# EAGLE library part ATTINY3217-MN (library atTiny3217)
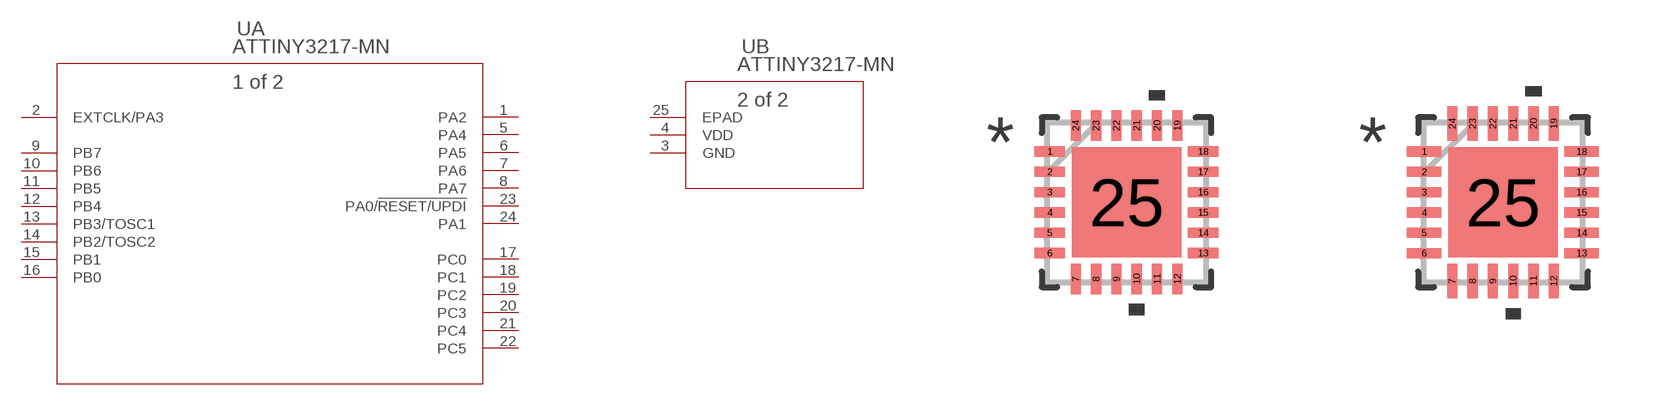
[diagram p0: symbol with the pads of VQFN24_4X4_MCH; footprints VQFN24_4X4_MCH, VQFN24_4X4_MCH-M]

Designator prefix U; gates A=ATTINY3217-MN B=ATTINY3217-MN_A

## ATTINY3217-MNVQFN24_4X4_MCH (Copyright: Copyright (C) 2021 Ultra Librarian. All rights reserved.; Manufacturer_Part_Number: ATTINY3217-MN; Mfr_Name: Microchip)  [VQFN24_4X4_MCH]
1  A:PA2
2  A:EXTCLK/PA3  pas
3  B:GND  pas
4  B:VDD  pwr
5  A:PA4
6  A:PA5
7  A:PA6
8  A:PA7
9  A:PB7
10  A:PB6
11  A:PB5
12  A:PB4
13  A:PB3/TOSC1
14  A:PB2/TOSC2
15  A:PB1
16  A:PB0
17  A:PC0
18  A:PC1
19  A:PC2
20  A:PC3
21  A:PC4
22  A:PC5
23  A:PA0/!RESET/UPDI
24  A:PA1
25  B:EPAD  pwr

## ATTINY3217-MNVQFN24_4X4_MCH-M (Copyright: Copyright (C) 2021 Ultra Librarian. All rights reserved.; Manufacturer_Part_Number: ATTINY3217-MN; Mfr_Name: Microchip)  [VQFN24_4X4_MCH-M]
Pads as for VQFN24_4X4_MCH

## ATTINY3217-MNVQFN24_4X4_MCH-L (Copyright: Copyright (C) 2021 Ultra Librarian. All rights reserved.; Manufacturer_Part_Number: ATTINY3217-MN; Mfr_Name: Microchip)  [VQFN24_4X4_MCH-L]
Pads as for VQFN24_4X4_MCH

## Footprint VQFN24_4X4_MCH (pad centres in mm)
smd 0.762 x 0.254: 1 -1.918,1.27; 2 -1.918,0.762; 3 -1.918,0.254; 4 -1.918,-0.254; 5 -1.918,-0.762; 6 -1.918,-1.27; 13 1.918,-1.27; 14 1.918,-0.762; 15 1.918,-0.254; 16 1.918,0.254; 17 1.918,0.762; 18 1.918,1.27
smd 0.254 x 0.762: 7 -1.27,-1.918; 8 -0.762,-1.918; 9 -0.254,-1.918; 10 0.254,-1.918; 11 0.762,-1.918; 12 1.27,-1.918; 19 1.27,1.918; 20 0.762,1.918; 21 0.254,1.918; 22 -0.254,1.918; 23 -0.762,1.918; 24 -1.27,1.918
smd 2.743 x 2.743: 25 0,0

## Footprint VQFN24_4X4_MCH-M (pad centres in mm)
smd 0.864 x 0.254: 1 -1.968,1.27; 2 -1.968,0.762; 3 -1.968,0.254; 4 -1.968,-0.254; 5 -1.968,-0.762; 6 -1.968,-1.27; 13 1.968,-1.27; 14 1.968,-0.762; 15 1.968,-0.254; 16 1.968,0.254; 17 1.968,0.762; 18 1.968,1.27
smd 0.254 x 0.864: 7 -1.27,-1.968; 8 -0.762,-1.968; 9 -0.254,-1.968; 10 0.254,-1.968; 11 0.762,-1.968; 12 1.27,-1.968; 19 1.27,1.968; 20 0.762,1.968; 21 0.254,1.968; 22 -0.254,1.968; 23 -0.762,1.968; 24 -1.27,1.968
smd 2.743 x 2.743: 25 0,0

## Footprint VQFN24_4X4_MCH-L (pad centres in mm)
smd 0.66 x 0.254: 1 -1.867,1.27; 2 -1.867,0.762; 3 -1.867,0.254; 4 -1.867,-0.254; 5 -1.867,-0.762; 6 -1.867,-1.27; 13 1.867,-1.27; 14 1.867,-0.762; 15 1.867,-0.254; 16 1.867,0.254; 17 1.867,0.762; 18 1.867,1.27
smd 0.254 x 0.66: 7 -1.27,-1.867; 8 -0.762,-1.867; 9 -0.254,-1.867; 10 0.254,-1.867; 11 0.762,-1.867; 12 1.27,-1.867; 19 1.27,1.867; 20 0.762,1.867; 21 0.254,1.867; 22 -0.254,1.867; 23 -0.762,1.867; 24 -1.27,1.867
smd 2.743 x 2.743: 25 0,0